# Altium schematic symbol library Relay.SchLib: 198 symbols (part 1 of 2)
Pins are listed as number, name and electrical type; pins without a type are passive.

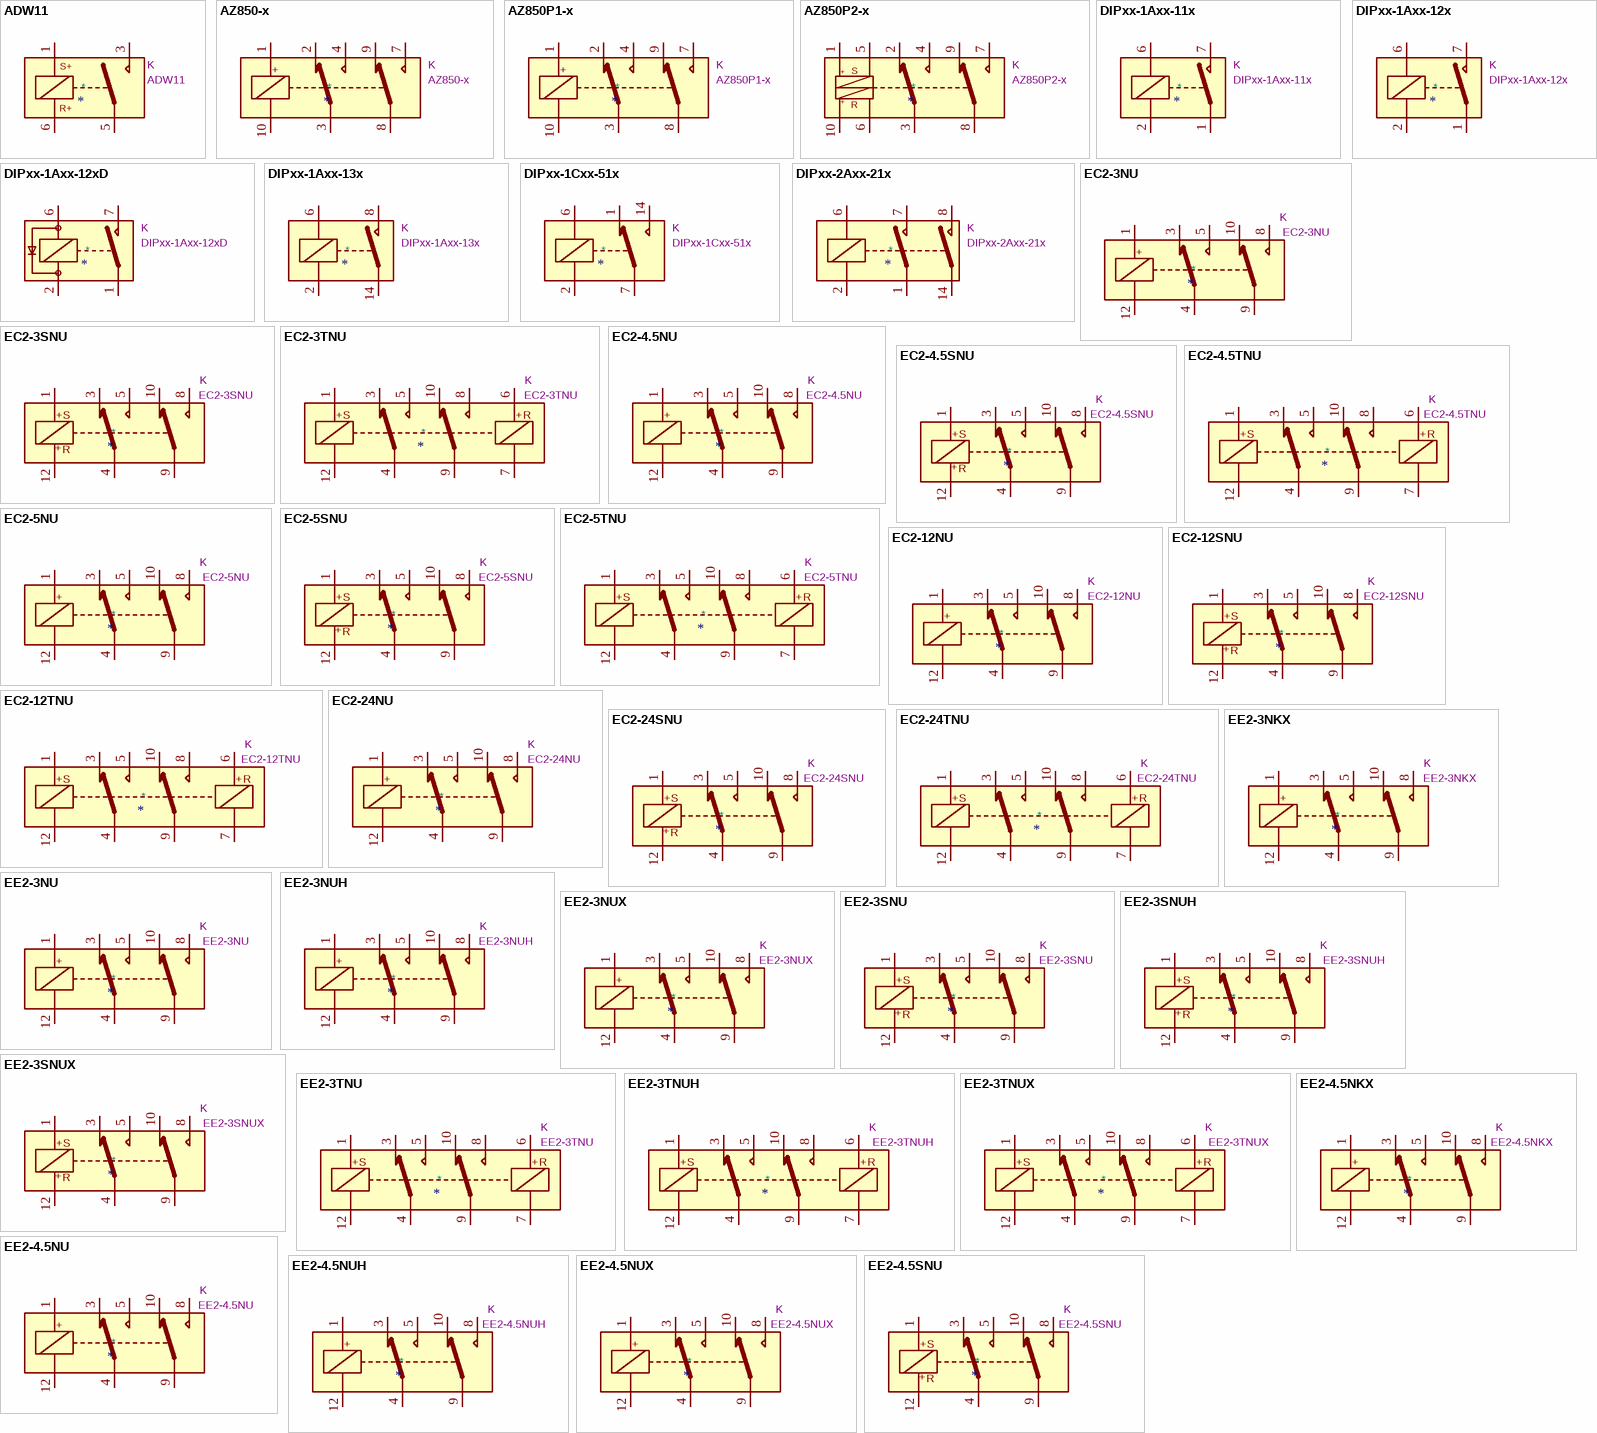
[diagram p0: symbols ADW11 to EE2-4.5SNU]

## ADW11
designator *  value ADW11  Reference: K
ki_keywords: SPST 1P1T; ki_description: Panasonic, 8A/16A, Small Polarized Latching Power Relays, Single coil, 1 Form A; ki_fp_filters: Relay*1P1T*NO*Panasonic*ADW11xxxxW*; Footprint: Relay_THT:Relay_1P1T_NO_10x24x18.8mm_Panasonic_ADW11xxxxW_THT; Datasheet: https://www.panasonic-electric-works.com/pew/es/downloads/ds_dw_hl_en.pdf
pins: 1, 3, 5, 6
text: S+; R+

## AZ850-x
designator *  value AZ850-x  Reference: K
ki_keywords: Miniature Polarised Relay Dual Pole; ki_description: American Zettler, Microminiature Polarised Dual Pole Relay; ki_fp_filters: Relay*DPDT*FRT5*; Footprint: Relay_THT:Relay_DPDT_FRT5; Datasheet: http://www.azettler.com/pdfs/az850.pdf
pins: 1, 2, 3, 4, 7, 8, 9, 10
text: +

## AZ850P1-x
designator *  value AZ850P1-x  Reference: K
ki_keywords: Miniature Polarised Relay Dual Pole Bistable; ki_description: American Zettler, Microminiature Polarised Dual Pole Relay Bistable; ki_fp_filters: Relay*DPDT*FRT5*; Footprint: Relay_THT:Relay_DPDT_FRT5; Datasheet: http://www.azettler.com/pdfs/az850.pdf
pins: 1, 2, 3, 4, 7, 8, 9, 10
text: +

## AZ850P2-x
designator *  value AZ850P2-x  Reference: K
ki_keywords: Miniature Polarised Relay Dual Pole Bistable; ki_description: American Zettler, Microminiature Polarised Dual Pole Relay Bistable; ki_fp_filters: Relay*DPDT*FRT5*; Footprint: Relay_THT:Relay_DPDT_FRT5; Datasheet: http://www.azettler.com/pdfs/az850.pdf
pins: 1, 2, 3, 4, 5, 6, 7, 8, 9, 10
text: +; S; R

## DIPxx-1Axx-11x
designator *  value DIPxx-1Axx-11x  Reference: K
ki_keywords: Single Pole Reed Relay SPST; ki_description: Standex Meder DIP reed relay, SPST, Closing Contact; ki_fp_filters: Relay*StandexMeder*DIP*LowProfile*; Footprint: Relay_THT:Relay_StandexMeder_DIP_LowProfile; Datasheet: https://standexelectronics.com/wp-content/uploads/datasheet_reed_relay_DIP.pdf
pins: 1, 2, 6, 7, 8 hidden, 14 hidden

## DIPxx-1Axx-12x
designator *  value DIPxx-1Axx-12x  Reference: K
ki_keywords: Single Pole Reed Relay SPST; ki_description: Standex Meder DIP reed relay, SPST, Closing Contact; ki_fp_filters: Relay*StandexMeder*DIP*LowProfile*; Footprint: Relay_THT:Relay_StandexMeder_DIP_LowProfile; Datasheet: https://standexelectronics.com/wp-content/uploads/datasheet_reed_relay_DIP.pdf
pins: 1, 2, 6, 7, 8 hidden, 13 hidden, 14 hidden

## DIPxx-1Axx-12xD
designator *  value DIPxx-1Axx-12xD  Reference: K
ki_keywords: Single Pole Reed Relay SPST; ki_description: Standex Meder DIP reed relay, SPST, Closing Contact, including diode; ki_fp_filters: Relay*StandexMeder*DIP*LowProfile*; Footprint: Relay_THT:Relay_StandexMeder_DIP_LowProfile; Datasheet: https://standexelectronics.com/wp-content/uploads/datasheet_reed_relay_DIP.pdf
pins: 1, 2, 6, 7, 8 hidden, 13 hidden, 14 hidden

## DIPxx-1Axx-13x
designator *  value DIPxx-1Axx-13x  Reference: K
ki_keywords: Single Pole Reed Relay SPST; ki_description: Standex Meder DIP reed relay, SPST, Closing Contact; ki_fp_filters: Relay*StandexMeder*DIP*LowProfile*; Footprint: Relay_THT:Relay_StandexMeder_DIP_LowProfile; Datasheet: https://standexelectronics.com/wp-content/uploads/datasheet_reed_relay_DIP.pdf
pins: 2, 6, 8, 14

## DIPxx-1Cxx-51x
designator *  value DIPxx-1Cxx-51x  Reference: K
ki_keywords: Single Pole Reed Relay SPDT; ki_description: Standex Meder DIP reed relay, SPDT; ki_fp_filters: Relay*StandexMeder*DIP*LowProfile*; Footprint: Relay_THT:Relay_StandexMeder_DIP_LowProfile; Datasheet: https://standexelectronics.com/wp-content/uploads/datasheet_reed_relay_DIP.pdf
pins: 1, 2, 6, 7, 8 hidden, 14

## DIPxx-2Axx-21x
designator *  value DIPxx-2Axx-21x  Reference: K
ki_keywords: Single Pole Reed Relay DPST; ki_description: Standex Meder DIP reed relay, DPST, Closing Contacts; ki_fp_filters: Relay*StandexMeder*DIP*LowProfile*; Footprint: Relay_THT:Relay_StandexMeder_DIP_LowProfile; Datasheet: https://standexelectronics.com/wp-content/uploads/datasheet_reed_relay_DIP.pdf
pins: 1, 2, 6, 7, 8, 14

## EC2-3NU
designator *  value EC2-3NU  Reference: K
ki_keywords: signal relay double pole double throw DPDT DC coil non latching; ki_description: General purpose signal relay, Kemet EC2 Series, DPDT (2 Form C), non-latching, through hole, 60W/125VA, 220VDC/250VAC, 2A, 3V DC coil; ki_fp_filters: Relay*THT*Kemet*EC2*; Footprint: Relay_THT:Relay_DPDT_Kemet_EC2; Datasheet: https://content.kemet.com/datasheets/KEM_R7002_EC2_EE2.pdf
pins: 1, 3, 4, 5, 8, 9, 10, 12
text: +

## EC2-3SNU
designator *  value EC2-3SNU  Reference: K
ki_keywords: signal relay double pole double throw DPDT DC coil single coil latching; ki_description: General purpose signal relay, Kemet EC2 Series, DPDT (2 Form C), single coil latching, through hole, 60W/125VA, 220VDC/250VAC, 2A, 3V DC coil; ki_fp_filters: Relay*THT*Kemet*EC2*; Footprint: Relay_THT:Relay_DPDT_Kemet_EC2; Datasheet: https://content.kemet.com/datasheets/KEM_R7002_EC2_EE2.pdf
pins: 1, 3, 4, 5, 8, 9, 10, 12
text: +; S; R

## EC2-3TNU
designator *  value EC2-3TNU  Reference: K
ki_keywords: signal relay double pole double throw DPDT DC coil double dual coil latching; ki_description: General purpose signal relay, Kemet EC2 Series, DPDT (2 Form C), double coil latching, through hole, 60W/125VA, 220VDC/250VAC, 2A, 3V DC coil; ki_fp_filters: Relay*THT*Kemet*EC2*DoubleCoil*; Footprint: Relay_THT:Relay_DPDT_Kemet_EC2_DoubleCoil; Datasheet: https://content.kemet.com/datasheets/KEM_R7002_EC2_EE2.pdf
pins: 1, 3, 4, 5, 6, 7, 8, 9, 10, 12
text: +; S; R

## EC2-4.5NU
designator *  value EC2-4.5NU  Reference: K
ki_keywords: signal relay double pole double throw DPDT DC coil non latching; ki_description: General purpose signal relay, Kemet EC2 Series, DPDT (2 Form C), non-latching, through hole, 60W/125VA, 220VDC/250VAC, 2A, 4.5V DC coil; ki_fp_filters: Relay*THT*Kemet*EC2*; Footprint: Relay_THT:Relay_DPDT_Kemet_EC2; Datasheet: https://content.kemet.com/datasheets/KEM_R7002_EC2_EE2.pdf
pins: 1, 3, 4, 5, 8, 9, 10, 12
text: +

## EC2-4.5SNU
designator *  value EC2-4.5SNU  Reference: K
ki_keywords: signal relay double pole double throw DPDT DC coil single coil latching; ki_description: General purpose signal relay, Kemet EC2 Series, DPDT (2 Form C), single coil latching, through hole, 60W/125VA, 220VDC/250VAC, 2A, 4.5V DC coil; ki_fp_filters: Relay*THT*Kemet*EC2*; Footprint: Relay_THT:Relay_DPDT_Kemet_EC2; Datasheet: https://content.kemet.com/datasheets/KEM_R7002_EC2_EE2.pdf
pins: 1, 3, 4, 5, 8, 9, 10, 12
text: +; S; R

## EC2-4.5TNU
designator *  value EC2-4.5TNU  Reference: K
ki_keywords: signal relay double pole double throw DPDT DC coil double dual coil latching; ki_description: General purpose signal relay, Kemet EC2 Series, DPDT (2 Form C), double coil latching, through hole, 60W/125VA, 220VDC/250VAC, 2A, 4.5V DC coil; ki_fp_filters: Relay*THT*Kemet*EC2*DoubleCoil*; Footprint: Relay_THT:Relay_DPDT_Kemet_EC2_DoubleCoil; Datasheet: https://content.kemet.com/datasheets/KEM_R7002_EC2_EE2.pdf
pins: 1, 3, 4, 5, 6, 7, 8, 9, 10, 12
text: +; S; R

## EC2-5NU
designator *  value EC2-5NU  Reference: K
ki_keywords: signal relay double pole double throw DPDT DC coil non latching; ki_description: General purpose signal relay, Kemet EC2 Series, DPDT (2 Form C), non-latching, through hole, 60W/125VA, 220VDC/250VAC, 2A, 5V DC coil; ki_fp_filters: Relay*THT*Kemet*EC2*; Footprint: Relay_THT:Relay_DPDT_Kemet_EC2; Datasheet: https://content.kemet.com/datasheets/KEM_R7002_EC2_EE2.pdf
pins: 1, 3, 4, 5, 8, 9, 10, 12
text: +

## EC2-5SNU
designator *  value EC2-5SNU  Reference: K
ki_keywords: signal relay double pole double throw DPDT DC coil single coil latching; ki_description: General purpose signal relay, Kemet EC2 Series, DPDT (2 Form C), single coil latching, through hole, 60W/125VA, 220VDC/250VAC, 2A, 5V DC coil; ki_fp_filters: Relay*THT*Kemet*EC2*; Footprint: Relay_THT:Relay_DPDT_Kemet_EC2; Datasheet: https://content.kemet.com/datasheets/KEM_R7002_EC2_EE2.pdf
pins: 1, 3, 4, 5, 8, 9, 10, 12
text: +; S; R

## EC2-5TNU
designator *  value EC2-5TNU  Reference: K
ki_keywords: signal relay double pole double throw DPDT DC coil double dual coil latching; ki_description: General purpose signal relay, Kemet EC2 Series, DPDT (2 Form C), double coil latching, through hole, 60W/125VA, 220VDC/250VAC, 2A, 5V DC coil; ki_fp_filters: Relay*THT*Kemet*EC2*DoubleCoil*; Footprint: Relay_THT:Relay_DPDT_Kemet_EC2_DoubleCoil; Datasheet: https://content.kemet.com/datasheets/KEM_R7002_EC2_EE2.pdf
pins: 1, 3, 4, 5, 6, 7, 8, 9, 10, 12
text: +; S; R

## EC2-12NU
designator *  value EC2-12NU  Reference: K
ki_keywords: signal relay double pole double throw DPDT DC coil non latching; ki_description: General purpose signal relay, Kemet EC2 Series, DPDT (2 Form C), non-latching, through hole, 60W/125VA, 220VDC/250VAC, 2A, 12V DC coil; ki_fp_filters: Relay*THT*Kemet*EC2*; Footprint: Relay_THT:Relay_DPDT_Kemet_EC2; Datasheet: https://content.kemet.com/datasheets/KEM_R7002_EC2_EE2.pdf
pins: 1, 3, 4, 5, 8, 9, 10, 12
text: +

## EC2-12SNU
designator *  value EC2-12SNU  Reference: K
ki_keywords: signal relay double pole double throw DPDT DC coil single coil latching; ki_description: General purpose signal relay, Kemet EC2 Series, DPDT (2 Form C), single coil latching, through hole, 60W/125VA, 220VDC/250VAC, 2A, 12V DC coil; ki_fp_filters: Relay*THT*Kemet*EC2*; Footprint: Relay_THT:Relay_DPDT_Kemet_EC2; Datasheet: https://content.kemet.com/datasheets/KEM_R7002_EC2_EE2.pdf
pins: 1, 3, 4, 5, 8, 9, 10, 12
text: +; S; R

## EC2-12TNU
designator *  value EC2-12TNU  Reference: K
ki_keywords: signal relay double pole double throw DPDT DC coil double dual coil latching; ki_description: General purpose signal relay, Kemet EC2 Series, DPDT (2 Form C), double coil latching, through hole, 60W/125VA, 220VDC/250VAC, 2A, 12V DC coil; ki_fp_filters: Relay*THT*Kemet*EC2*DoubleCoil*; Footprint: Relay_THT:Relay_DPDT_Kemet_EC2_DoubleCoil; Datasheet: https://content.kemet.com/datasheets/KEM_R7002_EC2_EE2.pdf
pins: 1, 3, 4, 5, 6, 7, 8, 9, 10, 12
text: +; S; R

## EC2-24NU
designator *  value EC2-24NU  Reference: K
ki_keywords: signal relay double pole double throw DPDT DC coil non latching; ki_description: General purpose signal relay, Kemet EC2 Series, DPDT (2 Form C), non-latching, through hole, 60W/125VA, 220VDC/250VAC, 2A, 24V DC coil; ki_fp_filters: Relay*THT*Kemet*EC2*; Footprint: Relay_THT:Relay_DPDT_Kemet_EC2; Datasheet: https://content.kemet.com/datasheets/KEM_R7002_EC2_EE2.pdf
pins: 1, 3, 4, 5, 8, 9, 10, 12
text: +

## EC2-24SNU
designator *  value EC2-24SNU  Reference: K
ki_keywords: signal relay double pole double throw DPDT DC coil single coil latching; ki_description: General purpose signal relay, Kemet EC2 Series, DPDT (2 Form C), single coil latching, through hole, 60W/125VA, 220VDC/250VAC, 2A, 24V DC coil; ki_fp_filters: Relay*THT*Kemet*EC2*; Footprint: Relay_THT:Relay_DPDT_Kemet_EC2; Datasheet: https://content.kemet.com/datasheets/KEM_R7002_EC2_EE2.pdf
pins: 1, 3, 4, 5, 8, 9, 10, 12
text: +; S; R

## EC2-24TNU
designator *  value EC2-24TNU  Reference: K
ki_keywords: signal relay double pole double throw DPDT DC coil double dual coil latching; ki_description: General purpose signal relay, Kemet EC2 Series, DPDT (2 Form C), double coil latching, through hole, 60W/125VA, 220VDC/250VAC, 2A, 24V DC coil; ki_fp_filters: Relay*THT*Kemet*EC2*DoubleCoil*; Footprint: Relay_THT:Relay_DPDT_Kemet_EC2_DoubleCoil; Datasheet: https://content.kemet.com/datasheets/KEM_R7002_EC2_EE2.pdf
pins: 1, 3, 4, 5, 6, 7, 8, 9, 10, 12
text: +; S; R

## EE2-3NKX
designator *  value EE2-3NKX  Reference: K
ki_keywords: signal relay double pole double throw DPDT DC coil non latching; ki_description: General purpose signal relay, Kemet EE2 Series, DPDT (2 Form C), non-latching, high breakdown voltage, high solder joint reliability SMD, 60W/125VA, 220VDC/250VAC, 2A, 3V DC coil; ki_fp_filters: Relay*DPDT*Kemet*EE2*NKX*; Footprint: Relay_SMD:Relay_DPDT_Kemet_EE2_NUX_NKX; Datasheet: https://content.kemet.com/datasheets/KEM_R7002_EC2_EE2.pdf
pins: 1, 3, 4, 5, 8, 9, 10, 12
text: +

## EE2-3NU
designator *  value EE2-3NU  Reference: K
ki_keywords: signal relay double pole double throw DPDT DC coil non latching; ki_description: General purpose signal relay, Kemet EE2 Series, DPDT (2 Form C), non-latching, SMD, 60W/125VA, 220VDC/250VAC, 2A, 3V DC coil; ki_fp_filters: Relay*DPDT*Kemet*EE2*NU*; Footprint: Relay_SMD:Relay_DPDT_Kemet_EE2_NU; Datasheet: https://content.kemet.com/datasheets/KEM_R7002_EC2_EE2.pdf
pins: 1, 3, 4, 5, 8, 9, 10, 12
text: +

## EE2-3NUH
designator *  value EE2-3NUH  Reference: K
ki_keywords: signal relay double pole double throw DPDT DC coil non latching; ki_description: General purpose signal relay, Kemet EE2 Series, DPDT (2 Form C), non-latching, small footprint SMD, 60W/125VA, 220VDC/250VAC, 2A, 3V DC coil; ki_fp_filters: Relay*DPDT*Kemet*EE2*NUH*; Footprint: Relay_SMD:Relay_DPDT_Kemet_EE2_NUH; Datasheet: https://content.kemet.com/datasheets/KEM_R7002_EC2_EE2.pdf
pins: 1, 3, 4, 5, 8, 9, 10, 12
text: +

## EE2-3NUX
designator *  value EE2-3NUX  Reference: K
ki_keywords: signal relay double pole double throw DPDT DC coil non latching; ki_description: General purpose signal relay, Kemet EE2 Series, DPDT (2 Form C), non-latching, high solder joint reliability SMD, 60W/125VA, 220VDC/250VAC, 2A, 3V DC coil; ki_fp_filters: Relay*DPDT*Kemet*EE2*NUX*; Footprint: Relay_SMD:Relay_DPDT_Kemet_EE2_NUX_NKX; Datasheet: https://content.kemet.com/datasheets/KEM_R7002_EC2_EE2.pdf
pins: 1, 3, 4, 5, 8, 9, 10, 12
text: +

## EE2-3SNU
designator *  value EE2-3SNU  Reference: K
ki_keywords: signal relay double pole double throw DPDT DC coil single coil latching; ki_description: General purpose signal relay, Kemet EE2 Series, DPDT (2 Form C), single coil latching, SMD, 60W/125VA, 220VDC/250VAC, 2A, 3V DC coil; ki_fp_filters: Relay*DPDT*Kemet*EE2*NU*; Footprint: Relay_SMD:Relay_DPDT_Kemet_EE2_NU; Datasheet: https://content.kemet.com/datasheets/KEM_R7002_EC2_EE2.pdf
pins: 1, 3, 4, 5, 8, 9, 10, 12
text: +; S; R

## EE2-3SNUH
designator *  value EE2-3SNUH  Reference: K
ki_keywords: signal relay double pole double throw DPDT DC coil single coil latching; ki_description: General purpose signal relay, Kemet EE2 Series, DPDT (2 Form C), single coil latching, small footprint SMD, 60W/125VA, 220VDC/250VAC, 2A, 3V DC coil; ki_fp_filters: Relay*DPDT*Kemet*EE2*NUH*; Footprint: Relay_SMD:Relay_DPDT_Kemet_EE2_NUH; Datasheet: https://content.kemet.com/datasheets/KEM_R7002_EC2_EE2.pdf
pins: 1, 3, 4, 5, 8, 9, 10, 12
text: +; S; R

## EE2-3SNUX
designator *  value EE2-3SNUX  Reference: K
ki_keywords: signal relay double pole double throw DPDT DC coil single coil latching; ki_description: General purpose signal relay, Kemet EE2 Series, DPDT (2 Form C), single coil latching, high solder joint reliability SMD, 60W/125VA, 220VDC/250VAC, 2A, 3V DC coil; ki_fp_filters: Relay*DPDT*Kemet*EE2*NUX*; Footprint: Relay_SMD:Relay_DPDT_Kemet_EE2_NUX_NKX; Datasheet: https://content.kemet.com/datasheets/KEM_R7002_EC2_EE2.pdf
pins: 1, 3, 4, 5, 8, 9, 10, 12
text: +; S; R

## EE2-3TNU
designator *  value EE2-3TNU  Reference: K
ki_keywords: signal relay double pole double throw DPDT DC coil double dual coil latching; ki_description: General purpose signal relay, Kemet EE2 Series, DPDT (2 Form C), double coil latching, SMD, 60W/125VA, 220VDC/250VAC, 2A, 3V DC coil; ki_fp_filters: Relay*DPDT*Kemet*EE2*NU*DoubleCoil*; Footprint: Relay_SMD:Relay_DPDT_Kemet_EE2_NU_DoubleCoil; Datasheet: https://content.kemet.com/datasheets/KEM_R7002_EC2_EE2.pdf
pins: 1, 3, 4, 5, 6, 7, 8, 9, 10, 12
text: +; S; R

## EE2-3TNUH
designator *  value EE2-3TNUH  Reference: K
ki_keywords: signal relay double pole double throw DPDT DC coil double dual coil latching; ki_description: General purpose signal relay, Kemet EE2 Series, DPDT (2 Form C), double coil latching, small footprint SMD, 60W/125VA, 220VDC/250VAC, 2A, 3V DC coil; ki_fp_filters: Relay*DPDT*Kemet*EE2*NUH*DoubleCoil*; Footprint: Relay_SMD:Relay_DPDT_Kemet_EE2_NUH_DoubleCoil; Datasheet: https://content.kemet.com/datasheets/KEM_R7002_EC2_EE2.pdf
pins: 1, 3, 4, 5, 6, 7, 8, 9, 10, 12
text: +; S; R

## EE2-3TNUX
designator *  value EE2-3TNUX  Reference: K
ki_keywords: signal relay double pole double throw DPDT DC coil double dual coil latching; ki_description: General purpose signal relay, Kemet EE2 Series, DPDT (2 Form C), double coil latching, high solder joint reliability SMD, 60W/125VA, 220VDC/250VAC, 2A, 3V DC coil; ki_fp_filters: Relay*DPDT*Kemet*EE2*NUX*DoubleCoil*; Footprint: Relay_SMD:Relay_DPDT_Kemet_EE2_NUX_DoubleCoil; Datasheet: https://content.kemet.com/datasheets/KEM_R7002_EC2_EE2.pdf
pins: 1, 3, 4, 5, 6, 7, 8, 9, 10, 12
text: +; S; R

## EE2-4.5NKX
designator *  value EE2-4.5NKX  Reference: K
ki_keywords: signal relay double pole double throw DPDT DC coil non latching; ki_description: General purpose signal relay, Kemet EE2 Series, DPDT (2 Form C), non-latching, high breakdown voltage, high solder joint reliability SMD, 60W/125VA, 220VDC/250VAC, 2A, 4.5V DC coil; ki_fp_filters: Relay*DPDT*Kemet*EE2*NKX*; Footprint: Relay_SMD:Relay_DPDT_Kemet_EE2_NUX_NKX; Datasheet: https://content.kemet.com/datasheets/KEM_R7002_EC2_EE2.pdf
pins: 1, 3, 4, 5, 8, 9, 10, 12
text: +

## EE2-4.5NU
designator *  value EE2-4.5NU  Reference: K
ki_keywords: signal relay double pole double throw DPDT DC coil non latching; ki_description: General purpose signal relay, Kemet EE2 Series, DPDT (2 Form C), non-latching, SMD, 60W/125VA, 220VDC/250VAC, 2A, 4.5V DC coil; ki_fp_filters: Relay*DPDT*Kemet*EE2*NU*; Footprint: Relay_SMD:Relay_DPDT_Kemet_EE2_NU; Datasheet: https://content.kemet.com/datasheets/KEM_R7002_EC2_EE2.pdf
pins: 1, 3, 4, 5, 8, 9, 10, 12
text: +

## EE2-4.5NUH
designator *  value EE2-4.5NUH  Reference: K
ki_keywords: signal relay double pole double throw DPDT DC coil non latching; ki_description: General purpose signal relay, Kemet EE2 Series, DPDT (2 Form C), non-latching, small footprint SMD, 60W/125VA, 220VDC/250VAC, 2A, 4.5V DC coil; ki_fp_filters: Relay*DPDT*Kemet*EE2*NUH*; Footprint: Relay_SMD:Relay_DPDT_Kemet_EE2_NUH; Datasheet: https://content.kemet.com/datasheets/KEM_R7002_EC2_EE2.pdf
pins: 1, 3, 4, 5, 8, 9, 10, 12
text: +

## EE2-4.5NUX
designator *  value EE2-4.5NUX  Reference: K
ki_keywords: signal relay double pole double throw DPDT DC coil non latching; ki_description: General purpose signal relay, Kemet EE2 Series, DPDT (2 Form C), non-latching, high solder joint reliability SMD, 60W/125VA, 220VDC/250VAC, 2A, 4.5V DC coil; ki_fp_filters: Relay*DPDT*Kemet*EE2*NUX*; Footprint: Relay_SMD:Relay_DPDT_Kemet_EE2_NUX_NKX; Datasheet: https://content.kemet.com/datasheets/KEM_R7002_EC2_EE2.pdf
pins: 1, 3, 4, 5, 8, 9, 10, 12
text: +

## EE2-4.5SNU
designator *  value EE2-4.5SNU  Reference: K
ki_keywords: signal relay double pole double throw DPDT DC coil single coil latching; ki_description: General purpose signal relay, Kemet EE2 Series, DPDT (2 Form C), single coil latching, SMD, 60W/125VA, 220VDC/250VAC, 2A, 4.5V DC coil; ki_fp_filters: Relay*DPDT*Kemet*EE2*NU*; Footprint: Relay_SMD:Relay_DPDT_Kemet_EE2_NU; Datasheet: https://content.kemet.com/datasheets/KEM_R7002_EC2_EE2.pdf
pins: 1, 3, 4, 5, 8, 9, 10, 12
text: +; S; R

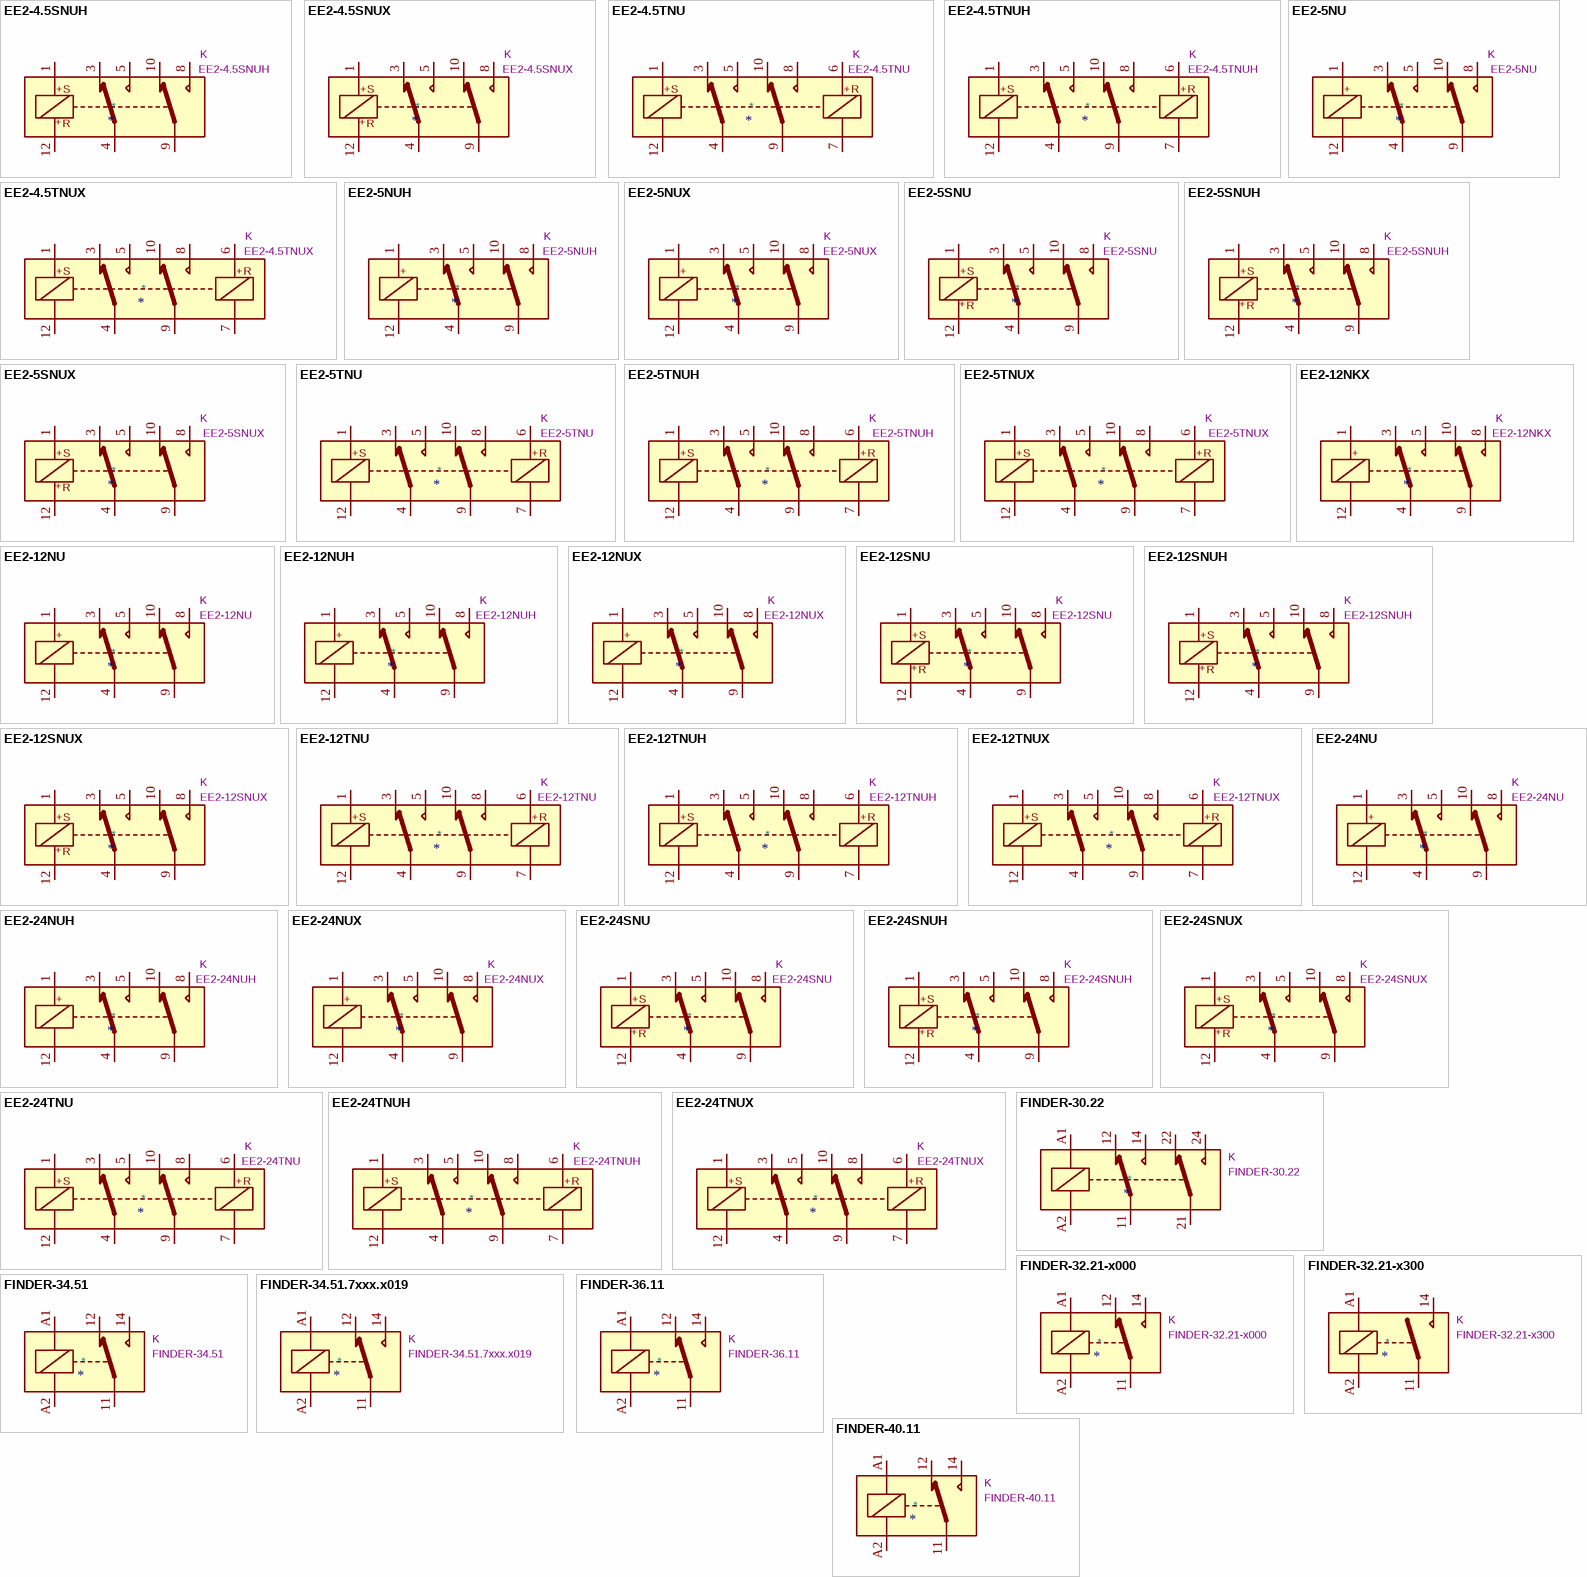
[diagram p1: symbols EE2-4.5SNUH to FINDER-40.11]

## EE2-4.5SNUH
designator *  value EE2-4.5SNUH  Reference: K
ki_keywords: signal relay double pole double throw DPDT DC coil single coil latching; ki_description: General purpose signal relay, Kemet EE2 Series, DPDT (2 Form C), single coil latching, small footprint SMD, 60W/125VA, 220VDC/250VAC, 2A, 4.5V DC coil; ki_fp_filters: Relay*DPDT*Kemet*EE2*NUH*; Footprint: Relay_SMD:Relay_DPDT_Kemet_EE2_NUH; Datasheet: https://content.kemet.com/datasheets/KEM_R7002_EC2_EE2.pdf
pins: 1, 3, 4, 5, 8, 9, 10, 12
text: +; S; R

## EE2-4.5SNUX
designator *  value EE2-4.5SNUX  Reference: K
ki_keywords: signal relay double pole double throw DPDT DC coil single coil latching; ki_description: General purpose signal relay, Kemet EE2 Series, DPDT (2 Form C), single coil latching, high solder joint reliability SMD, 60W/125VA, 220VDC/250VAC, 2A, 4.5V DC coil; ki_fp_filters: Relay*DPDT*Kemet*EE2*NUX*; Footprint: Relay_SMD:Relay_DPDT_Kemet_EE2_NUX_NKX; Datasheet: https://content.kemet.com/datasheets/KEM_R7002_EC2_EE2.pdf
pins: 1, 3, 4, 5, 8, 9, 10, 12
text: +; S; R

## EE2-4.5TNU
designator *  value EE2-4.5TNU  Reference: K
ki_keywords: signal relay double pole double throw DPDT DC coil double dual coil latching; ki_description: General purpose signal relay, Kemet EE2 Series, DPDT (2 Form C), double coil latching, SMD, 60W/125VA, 220VDC/250VAC, 2A, 4.5V DC coil; ki_fp_filters: Relay*DPDT*Kemet*EE2*NU*DoubleCoil*; Footprint: Relay_SMD:Relay_DPDT_Kemet_EE2_NU_DoubleCoil; Datasheet: https://content.kemet.com/datasheets/KEM_R7002_EC2_EE2.pdf
pins: 1, 3, 4, 5, 6, 7, 8, 9, 10, 12
text: +; S; R

## EE2-4.5TNUH
designator *  value EE2-4.5TNUH  Reference: K
ki_keywords: signal relay double pole double throw DPDT DC coil double dual coil latching; ki_description: General purpose signal relay, Kemet EE2 Series, DPDT (2 Form C), double coil latching, small footprint SMD, 60W/125VA, 220VDC/250VAC, 2A, 4.5V DC coil; ki_fp_filters: Relay*DPDT*Kemet*EE2*NUH*DoubleCoil*; Footprint: Relay_SMD:Relay_DPDT_Kemet_EE2_NUH_DoubleCoil; Datasheet: https://content.kemet.com/datasheets/KEM_R7002_EC2_EE2.pdf
pins: 1, 3, 4, 5, 6, 7, 8, 9, 10, 12
text: +; S; R

## EE2-4.5TNUX
designator *  value EE2-4.5TNUX  Reference: K
ki_keywords: signal relay double pole double throw DPDT DC coil double dual coil latching; ki_description: General purpose signal relay, Kemet EE2 Series, DPDT (2 Form C), double coil latching, high solder joint reliability SMD, 60W/125VA, 220VDC/250VAC, 2A, 4.5V DC coil; ki_fp_filters: Relay*DPDT*Kemet*EE2*NUX*DoubleCoil*; Footprint: Relay_SMD:Relay_DPDT_Kemet_EE2_NUX_DoubleCoil; Datasheet: https://content.kemet.com/datasheets/KEM_R7002_EC2_EE2.pdf
pins: 1, 3, 4, 5, 6, 7, 8, 9, 10, 12
text: +; S; R

## EE2-5NU
designator *  value EE2-5NU  Reference: K
ki_keywords: signal relay double pole double throw DPDT DC coil non latching; ki_description: General purpose signal relay, Kemet EE2 Series, DPDT (2 Form C), non-latching, SMD, 60W/125VA, 220VDC/250VAC, 2A, 5V DC coil; ki_fp_filters: Relay*DPDT*Kemet*EE2*NU*; Footprint: Relay_SMD:Relay_DPDT_Kemet_EE2_NU; Datasheet: https://content.kemet.com/datasheets/KEM_R7002_EC2_EE2.pdf
pins: 1, 3, 4, 5, 8, 9, 10, 12
text: +

## EE2-5NUH
designator *  value EE2-5NUH  Reference: K
ki_keywords: signal relay double pole double throw DPDT DC coil non latching; ki_description: General purpose signal relay, Kemet EE2 Series, DPDT (2 Form C), non-latching, small footprint SMD, 60W/125VA, 220VDC/250VAC, 2A, 5V DC coil; ki_fp_filters: Relay*DPDT*Kemet*EE2*NUH*; Footprint: Relay_SMD:Relay_DPDT_Kemet_EE2_NUH; Datasheet: https://content.kemet.com/datasheets/KEM_R7002_EC2_EE2.pdf
pins: 1, 3, 4, 5, 8, 9, 10, 12
text: +

## EE2-5NUX
designator *  value EE2-5NUX  Reference: K
ki_keywords: signal relay double pole double throw DPDT DC coil non latching; ki_description: General purpose signal relay, Kemet EE2 Series, DPDT (2 Form C), non-latching, high solder joint reliability SMD, 60W/125VA, 220VDC/250VAC, 2A, 5V DC coil; ki_fp_filters: Relay*DPDT*Kemet*EE2*NUX*; Footprint: Relay_SMD:Relay_DPDT_Kemet_EE2_NUX_NKX; Datasheet: https://content.kemet.com/datasheets/KEM_R7002_EC2_EE2.pdf
pins: 1, 3, 4, 5, 8, 9, 10, 12
text: +

## EE2-5SNU
designator *  value EE2-5SNU  Reference: K
ki_keywords: signal relay double pole double throw DPDT DC coil single coil latching; ki_description: General purpose signal relay, Kemet EE2 Series, DPDT (2 Form C), single coil latching, SMD, 60W/125VA, 220VDC/250VAC, 2A, 5V DC coil; ki_fp_filters: Relay*DPDT*Kemet*EE2*NU*; Footprint: Relay_SMD:Relay_DPDT_Kemet_EE2_NU; Datasheet: https://content.kemet.com/datasheets/KEM_R7002_EC2_EE2.pdf
pins: 1, 3, 4, 5, 8, 9, 10, 12
text: +; S; R

## EE2-5SNUH
designator *  value EE2-5SNUH  Reference: K
ki_keywords: signal relay double pole double throw DPDT DC coil single coil latching; ki_description: General purpose signal relay, Kemet EE2 Series, DPDT (2 Form C), single coil latching, small footprint SMD, 60W/125VA, 220VDC/250VAC, 2A, 5V DC coil; ki_fp_filters: Relay*DPDT*Kemet*EE2*NUH*; Footprint: Relay_SMD:Relay_DPDT_Kemet_EE2_NUH; Datasheet: https://content.kemet.com/datasheets/KEM_R7002_EC2_EE2.pdf
pins: 1, 3, 4, 5, 8, 9, 10, 12
text: +; S; R

## EE2-5SNUX
designator *  value EE2-5SNUX  Reference: K
ki_keywords: signal relay double pole double throw DPDT DC coil single coil latching; ki_description: General purpose signal relay, Kemet EE2 Series, DPDT (2 Form C), single coil latching, high solder joint reliability SMD, 60W/125VA, 220VDC/250VAC, 2A, 5V DC coil; ki_fp_filters: Relay*DPDT*Kemet*EE2*NUX*; Footprint: Relay_SMD:Relay_DPDT_Kemet_EE2_NUX_NKX; Datasheet: https://content.kemet.com/datasheets/KEM_R7002_EC2_EE2.pdf
pins: 1, 3, 4, 5, 8, 9, 10, 12
text: +; S; R

## EE2-5TNU
designator *  value EE2-5TNU  Reference: K
ki_keywords: signal relay double pole double throw DPDT DC coil double dual coil latching; ki_description: General purpose signal relay, Kemet EE2 Series, DPDT (2 Form C), double coil latching, SMD, 60W/125VA, 220VDC/250VAC, 2A, 5V DC coil; ki_fp_filters: Relay*DPDT*Kemet*EE2*NU*DoubleCoil*; Footprint: Relay_SMD:Relay_DPDT_Kemet_EE2_NU_DoubleCoil; Datasheet: https://content.kemet.com/datasheets/KEM_R7002_EC2_EE2.pdf
pins: 1, 3, 4, 5, 6, 7, 8, 9, 10, 12
text: +; S; R

## EE2-5TNUH
designator *  value EE2-5TNUH  Reference: K
ki_keywords: signal relay double pole double throw DPDT DC coil double dual coil latching; ki_description: General purpose signal relay, Kemet EE2 Series, DPDT (2 Form C), double coil latching, small footprint SMD, 60W/125VA, 220VDC/250VAC, 2A, 5V DC coil; ki_fp_filters: Relay*DPDT*Kemet*EE2*NUH*DoubleCoil*; Footprint: Relay_SMD:Relay_DPDT_Kemet_EE2_NUH_DoubleCoil; Datasheet: https://content.kemet.com/datasheets/KEM_R7002_EC2_EE2.pdf
pins: 1, 3, 4, 5, 6, 7, 8, 9, 10, 12
text: +; S; R

## EE2-5TNUX
designator *  value EE2-5TNUX  Reference: K
ki_keywords: signal relay double pole double throw DPDT DC coil double dual coil latching; ki_description: General purpose signal relay, Kemet EE2 Series, DPDT (2 Form C), double coil latching, high solder joint reliability SMD, 60W/125VA, 220VDC/250VAC, 2A, 5V DC coil; ki_fp_filters: Relay*DPDT*Kemet*EE2*NUX*DoubleCoil*; Footprint: Relay_SMD:Relay_DPDT_Kemet_EE2_NUX_DoubleCoil; Datasheet: https://content.kemet.com/datasheets/KEM_R7002_EC2_EE2.pdf
pins: 1, 3, 4, 5, 6, 7, 8, 9, 10, 12
text: +; S; R

## EE2-12NKX
designator *  value EE2-12NKX  Reference: K
ki_keywords: signal relay double pole double throw DPDT DC coil non latching; ki_description: General purpose signal relay, Kemet EE2 Series, DPDT (2 Form C), non-latching, high breakdown voltage, high solder joint reliability SMD, 60W/125VA, 220VDC/250VAC, 2A, 12V DC coil; ki_fp_filters: Relay*DPDT*Kemet*EE2*NKX*; Footprint: Relay_SMD:Relay_DPDT_Kemet_EE2_NUX_NKX; Datasheet: https://content.kemet.com/datasheets/KEM_R7002_EC2_EE2.pdf
pins: 1, 3, 4, 5, 8, 9, 10, 12
text: +

## EE2-12NU
designator *  value EE2-12NU  Reference: K
ki_keywords: signal relay double pole double throw DPDT DC coil non latching; ki_description: General purpose signal relay, Kemet EE2 Series, DPDT (2 Form C), non-latching, SMD, 60W/125VA, 220VDC/250VAC, 2A, 12V DC coil; ki_fp_filters: Relay*DPDT*Kemet*EE2*NU*; Footprint: Relay_SMD:Relay_DPDT_Kemet_EE2_NU; Datasheet: https://content.kemet.com/datasheets/KEM_R7002_EC2_EE2.pdf
pins: 1, 3, 4, 5, 8, 9, 10, 12
text: +

## EE2-12NUH
designator *  value EE2-12NUH  Reference: K
ki_keywords: signal relay double pole double throw DPDT DC coil non latching; ki_description: General purpose signal relay, Kemet EE2 Series, DPDT (2 Form C), non-latching, small footprint SMD, 60W/125VA, 220VDC/250VAC, 2A, 12V DC coil; ki_fp_filters: Relay*DPDT*Kemet*EE2*NUH*; Footprint: Relay_SMD:Relay_DPDT_Kemet_EE2_NUH; Datasheet: https://content.kemet.com/datasheets/KEM_R7002_EC2_EE2.pdf
pins: 1, 3, 4, 5, 8, 9, 10, 12
text: +

## EE2-12NUX
designator *  value EE2-12NUX  Reference: K
ki_keywords: signal relay double pole double throw DPDT DC coil non latching; ki_description: General purpose signal relay, Kemet EE2 Series, DPDT (2 Form C), non-latching, high solder joint reliability SMD, 60W/125VA, 220VDC/250VAC, 2A, 12V DC coil; ki_fp_filters: Relay*DPDT*Kemet*EE2*NUX*; Footprint: Relay_SMD:Relay_DPDT_Kemet_EE2_NUX_NKX; Datasheet: https://content.kemet.com/datasheets/KEM_R7002_EC2_EE2.pdf
pins: 1, 3, 4, 5, 8, 9, 10, 12
text: +

## EE2-12SNU
designator *  value EE2-12SNU  Reference: K
ki_keywords: signal relay double pole double throw DPDT DC coil single coil latching; ki_description: General purpose signal relay, Kemet EE2 Series, DPDT (2 Form C), single coil latching, SMD, 60W/125VA, 220VDC/250VAC, 2A, 12V DC coil; ki_fp_filters: Relay*DPDT*Kemet*EE2*NU*; Footprint: Relay_SMD:Relay_DPDT_Kemet_EE2_NU; Datasheet: https://content.kemet.com/datasheets/KEM_R7002_EC2_EE2.pdf
pins: 1, 3, 4, 5, 8, 9, 10, 12
text: +; S; R

## EE2-12SNUH
designator *  value EE2-12SNUH  Reference: K
ki_keywords: signal relay double pole double throw DPDT DC coil single coil latching; ki_description: General purpose signal relay, Kemet EE2 Series, DPDT (2 Form C), single coil latching, small footprint SMD, 60W/125VA, 220VDC/250VAC, 2A, 12V DC coil; ki_fp_filters: Relay*DPDT*Kemet*EE2*NUH*; Footprint: Relay_SMD:Relay_DPDT_Kemet_EE2_NUH; Datasheet: https://content.kemet.com/datasheets/KEM_R7002_EC2_EE2.pdf
pins: 1, 3, 4, 5, 8, 9, 10, 12
text: +; S; R

## EE2-12SNUX
designator *  value EE2-12SNUX  Reference: K
ki_keywords: signal relay double pole double throw DPDT DC coil single coil latching; ki_description: General purpose signal relay, Kemet EE2 Series, DPDT (2 Form C), single coil latching, high solder joint reliability SMD, 60W/125VA, 220VDC/250VAC, 2A, 12V DC coil; ki_fp_filters: Relay*DPDT*Kemet*EE2*NUX*; Footprint: Relay_SMD:Relay_DPDT_Kemet_EE2_NUX_NKX; Datasheet: https://content.kemet.com/datasheets/KEM_R7002_EC2_EE2.pdf
pins: 1, 3, 4, 5, 8, 9, 10, 12
text: +; S; R

## EE2-12TNU
designator *  value EE2-12TNU  Reference: K
ki_keywords: signal relay double pole double throw DPDT DC coil double dual coil latching; ki_description: General purpose signal relay, Kemet EE2 Series, DPDT (2 Form C), double coil latching, SMD, 60W/125VA, 220VDC/250VAC, 2A, 12V DC coil; ki_fp_filters: Relay*DPDT*Kemet*EE2*NU*DoubleCoil*; Footprint: Relay_SMD:Relay_DPDT_Kemet_EE2_NU_DoubleCoil; Datasheet: https://content.kemet.com/datasheets/KEM_R7002_EC2_EE2.pdf
pins: 1, 3, 4, 5, 6, 7, 8, 9, 10, 12
text: +; S; R

## EE2-12TNUH
designator *  value EE2-12TNUH  Reference: K
ki_keywords: signal relay double pole double throw DPDT DC coil double dual coil latching; ki_description: General purpose signal relay, Kemet EE2 Series, DPDT (2 Form C), double coil latching, small footprint SMD, 60W/125VA, 220VDC/250VAC, 2A, 12V DC coil; ki_fp_filters: Relay*DPDT*Kemet*EE2*NUH*DoubleCoil*; Footprint: Relay_SMD:Relay_DPDT_Kemet_EE2_NUH_DoubleCoil; Datasheet: https://content.kemet.com/datasheets/KEM_R7002_EC2_EE2.pdf
pins: 1, 3, 4, 5, 6, 7, 8, 9, 10, 12
text: +; S; R

## EE2-12TNUX
designator *  value EE2-12TNUX  Reference: K
ki_keywords: signal relay double pole double throw DPDT DC coil double dual coil latching; ki_description: General purpose signal relay, Kemet EE2 Series, DPDT (2 Form C), double coil latching, high solder joint reliability SMD, 60W/125VA, 220VDC/250VAC, 2A, 12V DC coil; ki_fp_filters: Relay*DPDT*Kemet*EE2*NUX*DoubleCoil*; Footprint: Relay_SMD:Relay_DPDT_Kemet_EE2_NUX_DoubleCoil; Datasheet: https://content.kemet.com/datasheets/KEM_R7002_EC2_EE2.pdf
pins: 1, 3, 4, 5, 6, 7, 8, 9, 10, 12
text: +; S; R

## EE2-24NU
designator *  value EE2-24NU  Reference: K
ki_keywords: signal relay double pole double throw DPDT DC coil non latching; ki_description: General purpose signal relay, Kemet EE2 Series, DPDT (2 Form C), non-latching, SMD, 60W/125VA, 220VDC/250VAC, 2A, 24V DC coil; ki_fp_filters: Relay*DPDT*Kemet*EE2*NU*; Footprint: Relay_SMD:Relay_DPDT_Kemet_EE2_NU; Datasheet: https://content.kemet.com/datasheets/KEM_R7002_EC2_EE2.pdf
pins: 1, 3, 4, 5, 8, 9, 10, 12
text: +

## EE2-24NUH
designator *  value EE2-24NUH  Reference: K
ki_keywords: signal relay double pole double throw DPDT DC coil non latching; ki_description: General purpose signal relay, Kemet EE2 Series, DPDT (2 Form C), non-latching, small footprint SMD, 60W/125VA, 220VDC/250VAC, 2A, 24V DC coil; ki_fp_filters: Relay*DPDT*Kemet*EE2*NUH*; Footprint: Relay_SMD:Relay_DPDT_Kemet_EE2_NUH; Datasheet: https://content.kemet.com/datasheets/KEM_R7002_EC2_EE2.pdf
pins: 1, 3, 4, 5, 8, 9, 10, 12
text: +

## EE2-24NUX
designator *  value EE2-24NUX  Reference: K
ki_keywords: signal relay double pole double throw DPDT DC coil non latching; ki_description: General purpose signal relay, Kemet EE2 Series, DPDT (2 Form C), non-latching, high solder joint reliability SMD, 60W/125VA, 220VDC/250VAC, 2A, 24V DC coil; ki_fp_filters: Relay*DPDT*Kemet*EE2*NUX*; Footprint: Relay_SMD:Relay_DPDT_Kemet_EE2_NUX_NKX; Datasheet: https://content.kemet.com/datasheets/KEM_R7002_EC2_EE2.pdf
pins: 1, 3, 4, 5, 8, 9, 10, 12
text: +

## EE2-24SNU
designator *  value EE2-24SNU  Reference: K
ki_keywords: signal relay double pole double throw DPDT DC coil single coil latching; ki_description: General purpose signal relay, Kemet EE2 Series, DPDT (2 Form C), single coil latching, SMD, 60W/125VA, 220VDC/250VAC, 2A, 24V DC coil; ki_fp_filters: Relay*DPDT*Kemet*EE2*NU*; Footprint: Relay_SMD:Relay_DPDT_Kemet_EE2_NU; Datasheet: https://content.kemet.com/datasheets/KEM_R7002_EC2_EE2.pdf
pins: 1, 3, 4, 5, 8, 9, 10, 12
text: +; S; R

## EE2-24SNUH
designator *  value EE2-24SNUH  Reference: K
ki_keywords: signal relay double pole double throw DPDT DC coil single coil latching; ki_description: General purpose signal relay, Kemet EE2 Series, DPDT (2 Form C), single coil latching, small footprint SMD, 60W/125VA, 220VDC/250VAC, 2A, 24V DC coil; ki_fp_filters: Relay*DPDT*Kemet*EE2*NUH*; Footprint: Relay_SMD:Relay_DPDT_Kemet_EE2_NUH; Datasheet: https://content.kemet.com/datasheets/KEM_R7002_EC2_EE2.pdf
pins: 1, 3, 4, 5, 8, 9, 10, 12
text: +; S; R

## EE2-24SNUX
designator *  value EE2-24SNUX  Reference: K
ki_keywords: signal relay double pole double throw DPDT DC coil single coil latching; ki_description: General purpose signal relay, Kemet EE2 Series, DPDT (2 Form C), single coil latching, high solder joint reliability SMD, 60W/125VA, 220VDC/250VAC, 2A, 24V DC coil; ki_fp_filters: Relay*DPDT*Kemet*EE2*NUX*; Footprint: Relay_SMD:Relay_DPDT_Kemet_EE2_NUX_NKX; Datasheet: https://content.kemet.com/datasheets/KEM_R7002_EC2_EE2.pdf
pins: 1, 3, 4, 5, 8, 9, 10, 12
text: +; S; R

## EE2-24TNU
designator *  value EE2-24TNU  Reference: K
ki_keywords: signal relay double pole double throw DPDT DC coil double dual coil latching; ki_description: General purpose signal relay, Kemet EE2 Series, DPDT (2 Form C), double coil latching, SMD, 60W/125VA, 220VDC/250VAC, 2A, 24V DC coil; ki_fp_filters: Relay*DPDT*Kemet*EE2*NU*DoubleCoil*; Footprint: Relay_SMD:Relay_DPDT_Kemet_EE2_NU_DoubleCoil; Datasheet: https://content.kemet.com/datasheets/KEM_R7002_EC2_EE2.pdf
pins: 1, 3, 4, 5, 6, 7, 8, 9, 10, 12
text: +; S; R

## EE2-24TNUH
designator *  value EE2-24TNUH  Reference: K
ki_keywords: signal relay double pole double throw DPDT DC coil double dual coil latching; ki_description: General purpose signal relay, Kemet EE2 Series, DPDT (2 Form C), double coil latching, small footprint SMD, 60W/125VA, 220VDC/250VAC, 2A, 24V DC coil; ki_fp_filters: Relay*DPDT*Kemet*EE2*NUH*DoubleCoil*; Footprint: Relay_SMD:Relay_DPDT_Kemet_EE2_NUH_DoubleCoil; Datasheet: https://content.kemet.com/datasheets/KEM_R7002_EC2_EE2.pdf
pins: 1, 3, 4, 5, 6, 7, 8, 9, 10, 12
text: +; S; R

## EE2-24TNUX
designator *  value EE2-24TNUX  Reference: K
ki_keywords: signal relay double pole double throw DPDT DC coil double dual coil latching; ki_description: General purpose signal relay, Kemet EE2 Series, DPDT (2 Form C), double coil latching, high solder joint reliability SMD, 60W/125VA, 220VDC/250VAC, 2A, 24V DC coil; ki_fp_filters: Relay*DPDT*Kemet*EE2*NUX*DoubleCoil*; Footprint: Relay_SMD:Relay_DPDT_Kemet_EE2_NUX_DoubleCoil; Datasheet: https://content.kemet.com/datasheets/KEM_R7002_EC2_EE2.pdf
pins: 1, 3, 4, 5, 6, 7, 8, 9, 10, 12
text: +; S; R

## FINDER-30.22
designator *  value FINDER-30.22  Reference: K
ki_keywords: Dual Pole Relay; ki_description: FINDER 30.52, Dual Pole Relay, Subminiature 5mm Pitch, 2A; ki_fp_filters: Relay*DPDT*Finder*30.22*; Footprint: Relay_THT:Relay_DPDT_Finder_30.22; Datasheet: http://gfinder.findernet.com/assets/Series/354/S30EN.pdf
pins: 11, 12, 14, 21, 22, 24, A1, A2

## FINDER-32.21-x000
designator *  value FINDER-32.21-x000  Reference: K
ki_keywords: Single Pole Relay; ki_description: FINDER 32.21-x000, Single Pole Relay, 6A; ki_fp_filters: Relay*SPDT*Finder*32.21*x000*; Footprint: Relay_THT:Relay_SPDT_Finder_32.21-x000; Datasheet: https://gfinder.findernet.com/assets/Series/355/S32EN.pdf
pins: 11, 12, 14, A1, A2

## FINDER-32.21-x300
designator *  value FINDER-32.21-x300  Reference: K
ki_keywords: Single Pole Relay SPST-NO; ki_description: FINDER 32.21-x300, Single Pole Relay SPST-NO, 6A; ki_fp_filters: Relay*SPST*Finder*32.21*x300*; Footprint: Relay_THT:Relay_SPST_Finder_32.21-x300; Datasheet: http://gfinder.findernet.com/assets/Series/355/S32EN.pdf
pins: 11, 14, A1, A2

## FINDER-34.51
designator *  value FINDER-34.51  Reference: K
ki_keywords: Single Pole Relay SPDT; ki_description: Ultra-slim 1 Pole - 6A SPDT relay; ki_fp_filters: Relay*SPDT*Finder*34.51*; Footprint: Relay_THT:Relay_SPDT_Finder_34.51_Vertical; Datasheet: https://gfinder.findernet.com/public/attachments/34/EN/S34USAEN.pdf
pins: 11, 12, 14, A1, A2

## FINDER-34.51.7xxx.x019
designator *  value FINDER-34.51.7xxx.x019  Reference: K
ki_keywords: Single Pole Relay SPDT; ki_description: Ultra-slim 1 Pole - 6A SPDT relay; ki_fp_filters: Relay*SPDT*Finder*34.51*Horizontal*; Footprint: Relay_THT:Relay_SPDT_Finder_34.51_Horizontal; Datasheet: https://gfinder.findernet.com/public/attachments/34/EN/S34USAEN.pdf
pins: 11, 12, 14, A1, A2

## FINDER-36.11
designator *  value FINDER-36.11  Reference: K
ki_keywords: spdt relay; ki_description: FINDER 36.11, SPDT relay, 10A; ki_fp_filters: Relay*SPDT*Finder*36.11*; Footprint: Relay_THT:Relay_SPDT_Finder_36.11; Datasheet: https://gfinder.findernet.com/public/attachments/36/EN/S36EN.pdf
pins: 11, 12, 14, A1, A2

## FINDER-40.11
designator *  value FINDER-40.11  Reference: K
ki_keywords: Single Pole Relay SPDT Finder; ki_description: PCB SPDT relay, 10A; ki_fp_filters: Relay*SPDT*Finder*40.11*; Footprint: Relay_THT:Relay_SPDT_Finder_40.11; Datasheet: https://www.finder-relais.net/de/finder-relais-serie-40.pdf
pins: 11, 12, 14, A1, A2

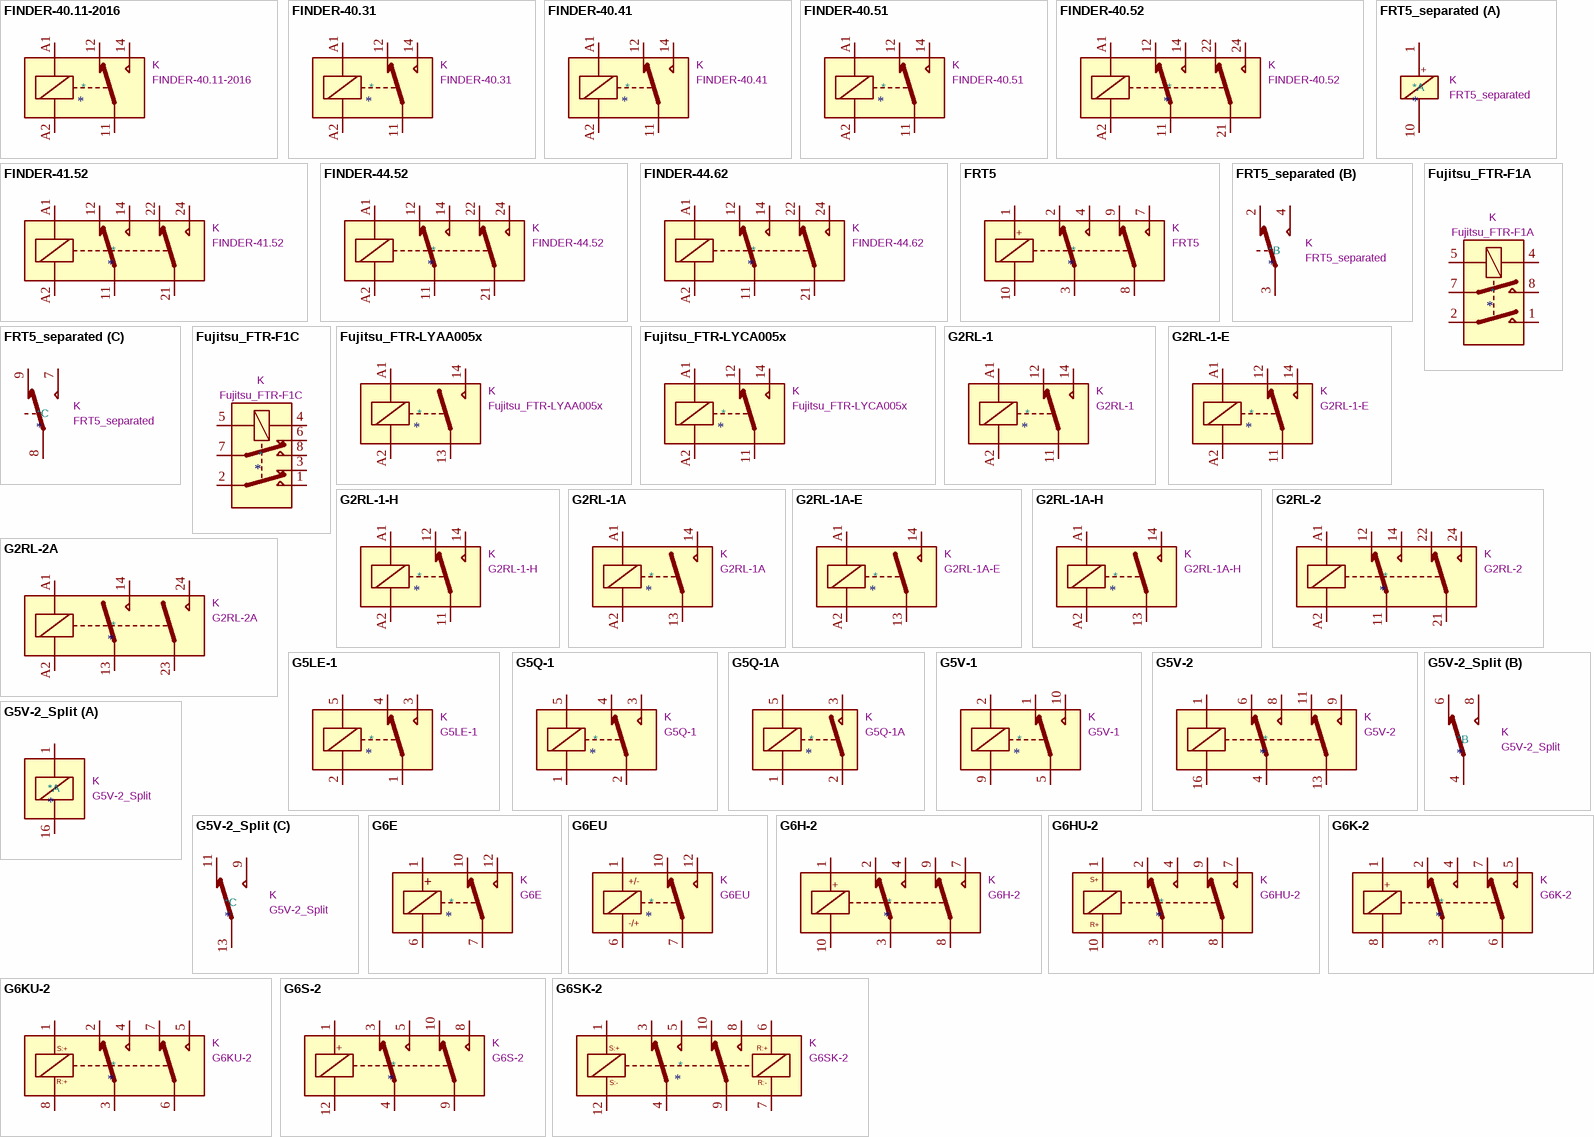
[diagram p2: symbols FINDER-40.11-2016 to G6SK-2]

## FINDER-40.11-2016
designator *  value FINDER-40.11-2016  Reference: K
ki_keywords: Single Pole Relay SPDT Finder; ki_description: PCB SPDT relay, 16A; ki_fp_filters: Relay*SPDT*Finder*40.11*; Footprint: Relay_THT:Relay_SPDT_Finder_40.11; Datasheet: https://www.finder-relais.net/de/finder-relais-serie-40.pdf
pins: 11, 12, 14, A1, A2

## FINDER-40.31
designator *  value FINDER-40.31  Reference: K
ki_keywords: Single Pole Relay; ki_description: FINDER 40.31, Single Pole Relay, 3.5mm Pitch, 10A; ki_fp_filters: Relay*SPDT*Finder*40.31*; Footprint: Relay_THT:Relay_SPDT_Finder_40.31; Datasheet: http://gfinder.findernet.com/assets/Series/353/S40EN.pdf
pins: 11, 12, 14, A1, A2

## FINDER-40.41
designator *  value FINDER-40.41  Reference: K
ki_keywords: Single Pole Relay SPDT Finder; ki_description: PCB SPDT relay, 10A; ki_fp_filters: Relay*SPDT*Finder*40.41*; Footprint: Relay_THT:Relay_SPDT_Finder_40.41; Datasheet: https://www.finder-relais.net/de/finder-relais-serie-40.pdf
pins: 11, 12, 14, A1, A2

## FINDER-40.51
designator *  value FINDER-40.51  Reference: K
ki_keywords: Single Pole Relay; ki_description: FINDER 40.51, Single Pole Relay, 5mm Pitch, 10A; ki_fp_filters: Relay*SPDT*Finder*40.51*; Footprint: Relay_THT:Relay_SPDT_Finder_40.51; Datasheet: http://gfinder.findernet.com/assets/Series/353/S40EN.pdf
pins: 11, 12, 14, A1, A2

## FINDER-40.52
designator *  value FINDER-40.52  Reference: K
ki_keywords: Dual Pole Relay; ki_description: FINDER 40.52, Dual Pole Relay, 5mm Pitch, 10A; ki_fp_filters: Relay*DPDT*Finder*40.52*; Footprint: Relay_THT:Relay_DPDT_Finder_40.52; Datasheet: http://gfinder.findernet.com/assets/Series/353/S40EN.pdf
pins: 11, 12, 14, 21, 22, 24, A1, A2

## FINDER-41.52
designator *  value FINDER-41.52  Reference: K
ki_keywords: Dual Pole Relay; ki_description: FINDER 41.52, Dual Pole Relay, 5mm Pitch, 8A; ki_fp_filters: Relay*DPDT*Finder*40.52*; Footprint: Relay_THT:Relay_DPDT_Finder_40.52; Datasheet: http://gfinder.findernet.com/assets/Series/357/S41EN.pdf
pins: 11, 12, 14, 21, 22, 24, A1, A2

## FINDER-44.52
designator *  value FINDER-44.52  Reference: K
ki_keywords: Dual Pole Relay; ki_description: FINDER 44.52, Dual Pole Relay, 5mm Pitch, 6A; ki_fp_filters: Relay*DPDT*Finder*40.52*; Footprint: Relay_THT:Relay_DPDT_Finder_40.52; Datasheet: http://gfinder.findernet.com/assets/Series/359/S44EN.pdf
pins: 11, 12, 14, 21, 22, 24, A1, A2

## FINDER-44.62
designator *  value FINDER-44.62  Reference: K
ki_keywords: Dual Pole Relay; ki_description: FINDER 44.62, Dual Pole Relay, 5mm Pitch, 10A; ki_fp_filters: Relay*DPDT*Finder*40.52*; Footprint: Relay_THT:Relay_DPDT_Finder_40.52; Datasheet: http://gfinder.findernet.com/assets/Series/359/S44EN.pdf
pins: 11, 12, 14, 21, 22, 24, A1, A2

## FRT5
designator *  value FRT5  Reference: K
ki_keywords: relay monostable; ki_description: FORWARD INDUSTRIAL, Miniature Dual Pole Relay, DIP-like package; ki_fp_filters: Relay*DPDT*FRT5*; Footprint: Relay_THT:Relay_DPDT_FRT5; Datasheet: https://www.elpro.org/de/index.php?controller=attachment&id_attachment=8663
pins: 1, 2, 3, 4, 7, 8, 9, 10
text: +

## FRT5_separated
designator *  value FRT5_separated  Reference: K
ki_keywords: relay monostable; ki_description: FORWARD INDUSTRIAL, Miniature Dual Pole Relay, DIP-like package, separate subsymbols; ki_fp_filters: Relay*DPDT*FRT5*; Footprint: Relay_THT:Relay_DPDT_FRT5; Datasheet: https://www.elpro.org/de/index.php?controller=attachment&id_attachment=8663
part A pins: 1, 10
part B pins: 2, 3, 4
part C pins: 7, 8, 9
part A text: +

## Fujitsu_FTR-F1A
designator *  value Fujitsu_FTR-F1A  Reference: K
ki_keywords: double pole single throw relay; ki_description: Fujitsu Low Profile Power Relay; ki_fp_filters: *Relay*DPST*Fujitsu*FTR*F1A*; Footprint: Relay_THT:Relay_DPST_Fujitsu_FTR-F1A; Datasheet: https://www.fcl.fujitsu.com/downloads/MICRO/fcai/relays/ftr-f1.pdf
pins: 1, 2, 4, 5, 7, 8

## Fujitsu_FTR-F1C
designator *  value Fujitsu_FTR-F1C  Reference: K
ki_keywords: double pole double throw relay; ki_description: Fujitsu Low Profile Power Relay; ki_fp_filters: *Relay*DPDT*Fujitsu*FTR*F1C*; Footprint: Relay_THT:Relay_DPDT_Fujitsu_FTR-F1C; Datasheet: https://www.fcl.fujitsu.com/downloads/MICRO/fcai/relays/ftr-f1.pdf
pins: 1, 2, 3, 4, 5, 6, 7, 8

## Fujitsu_FTR-LYAA005x
designator *  value Fujitsu_FTR-LYAA005x  Reference: K
ki_keywords: 6A SPST-NO Relay; ki_description: Relay, SPST Form A, vertical mount, 5-60V coil, 6A, 250VAC, 28 x 5 x 15mm; ki_fp_filters: Relay*Fujitsu*FTR?LYA*; Footprint: Relay_THT:Relay_SPST-NO_Fujitsu_FTR-LYAA005x_FormA_Vertical; Datasheet: https://www.fujitsu.com/sg/imagesgig5/ftr-ly.pdf
pins: 13, 14, A1, A2

## Fujitsu_FTR-LYCA005x
designator *  value Fujitsu_FTR-LYCA005x  Reference: K
ki_keywords: 6A SPDT Relay; ki_description: Relay, SPDT Form C, vertical mount, 5-60V coil, 6A, 250VAC, 28 x 5 x 15mm; ki_fp_filters: Relay*Fujitsu*FTR?LYC*; Footprint: Relay_THT:Relay_SPDT_Fujitsu_FTR-LYCA005x_FormC_Vertical; Datasheet: https://www.fujitsu.com/sg/imagesgig5/ftr-ly.pdf
pins: 11, 12, 14, A1, A2

## G2RL-1
designator *  value G2RL-1  Reference: K
ki_keywords: Single Pole Relay SPDT Omron; ki_description: General Purpose Low Profile Relay SPDT Through Hole, Omron G2RL series, 12A 250VAC; ki_fp_filters: Relay?SPDT?Omron?G2RL*; Footprint: Relay_THT:Relay_SPDT_Omron_G2RL-1; Datasheet: https://omronfs.omron.com/en_US/ecb/products/pdf/en-g2rl.pdf
pins: 11, 12, 14, A1, A2

## G2RL-1-E
designator *  value G2RL-1-E  Reference: K
ki_keywords: Single Pole Relay SPDT Omron High Capacity; ki_description: General Purpose Low Profile Relay SPDT Through Hole High Capacity, Omron G2RL series, 16A 250VAC; ki_fp_filters: Relay?SPDT?Omron?G2RL*E*; Footprint: Relay_THT:Relay_SPDT_Omron_G2RL-1-E; Datasheet: https://omronfs.omron.com/en_US/ecb/products/pdf/en-g2rl.pdf
pins: 11, 12, 14, A1, A2

## G2RL-1-H
designator *  value G2RL-1-H  Reference: K
ki_keywords: Single Pole Relay SPDT Omron High Sensitivity; ki_description: General Purpose Low Profile Relay SPDT Through Hole, Omron G2RL series, High Sensitivity, 10A 250VAC; ki_fp_filters: Relay?SPDT?Omron?G2RL*; Footprint: Relay_THT:Relay_SPDT_Omron_G2RL-1; Datasheet: https://omronfs.omron.com/en_US/ecb/products/pdf/en-g2rl.pdf
pins: 11, 12, 14, A1, A2

## G2RL-1A
designator *  value G2RL-1A  Reference: K
ki_keywords: Single Pole Relay SPST Omron NO; ki_description: General Purpose Low Profile Relay SPST Through Hole, Omron G2RL series, Normally Open, 12A 250VAC; ki_fp_filters: Relay?SPST?Omron?G2RL*; Footprint: Relay_THT:Relay_SPST_Omron_G2RL-1A; Datasheet: https://omronfs.omron.com/en_US/ecb/products/pdf/en-g2rl.pdf
pins: 13, 14, A1, A2

## G2RL-1A-E
designator *  value G2RL-1A-E  Reference: K
ki_keywords: Single Pole Relay SPST Omron NO High Capacity; ki_description: General Purpose Low Profile Relay SPST Through Hole High Capacity, Omron G2RL series, Normally Open, 16A 250VAC; ki_fp_filters: Relay?SPST?Omron?G2RL*E*; Footprint: Relay_THT:Relay_SPST_Omron_G2RL-1A-E; Datasheet: https://omronfs.omron.com/en_US/ecb/products/pdf/en-g2rl.pdf
pins: 13, 14, A1, A2

## G2RL-1A-H
designator *  value G2RL-1A-H  Reference: K
ki_keywords: Single Pole Relay SPST Omron NO High Sensitivity; ki_description: General Purpose Low Profile Relay SPST Through Hole, Omron G2RL series, Normally Open, High Sensitivity, 10A 250VAC; ki_fp_filters: Relay?SPST?Omron?G2RL*; Footprint: Relay_THT:Relay_SPST_Omron_G2RL-1A; Datasheet: https://omronfs.omron.com/en_US/ecb/products/pdf/en-g2rl.pdf
pins: 13, 14, A1, A2

## G2RL-2
designator *  value G2RL-2  Reference: K
ki_keywords: Dual Pole Relay Omron DPDT; ki_description: General Purpose Low Profile Relay DPDT Through Hole, Omron G2RL series, 8A 250VAC; ki_fp_filters: Relay?DPDT?Omron?G2RL*; Footprint: Relay_THT:Relay_DPDT_Omron_G2RL-2; Datasheet: https://omronfs.omron.com/en_US/ecb/products/pdf/en-g2rl.pdf
pins: 11, 12, 14, 21, 22, 24, A1, A2

## G2RL-2A
designator *  value G2RL-2A  Reference: K
ki_keywords: Dual Pole Relay Omron DPST NO; ki_description: General Purpose Low Profile Relay DPST Through Hole, Omron G2RL series, Normally Open,  8A 250VAC; ki_fp_filters: Relay?DPST?Omron?G2RL*; Footprint: Relay_THT:Relay_DPST_Omron_G2RL-2A; Datasheet: https://omronfs.omron.com/en_US/ecb/products/pdf/en-g2rl.pdf
pins: 13, 14, 23, 24, A1, A2

## G5LE-1
designator *  value G5LE-1  Reference: K
ki_keywords: Miniature Single Pole Relay; ki_description: Omron G5LE relay, Miniature Single Pole, SPDT, 10A; ki_fp_filters: Relay*SPDT*Omron*G5LE?1*; Footprint: Relay_THT:Relay_SPDT_Omron-G5LE-1; Datasheet: http://www.omron.com/ecb/products/pdf/en-g5le.pdf
pins: 1, 2, 3, 4, 5

## G5Q-1
designator *  value G5Q-1  Reference: K
ki_keywords: Miniature Single Pole Relay; ki_description: Omron G5G relay, Miniature Single Pole, SPDT, 10A; ki_fp_filters: Relay*SPDT*Omron*G5Q*; Footprint: Relay_THT:Relay_SPDT_Omron-G5Q-1; Datasheet: https://www.omron.com/ecb/products/pdf/en-g5q.pdf
pins: 1, 2, 3, 4, 5

## G5Q-1A
designator *  value G5Q-1A  Reference: K
ki_keywords: Miniature Single Pole Relay; ki_description: Omron G5Q relay, Miniature Single Pole, SPST-NO, 10A; ki_fp_filters: Relay*SPST*Omron*G5Q*; Footprint: Relay_THT:Relay_SPST_Omron-G5Q-1A; Datasheet: https://www.omron.com/ecb/products/pdf/en-g5q.pdf
pins: 1, 2, 3, 5

## G5V-1
designator *  value G5V-1  Reference: K
ki_keywords: Single Pole Relay SPDT; ki_description: Ultra-miniature, Highly Sensitive SPDT Relay for Signal Circuits; ki_fp_filters: Relay*SPDT*Omron*G5V?1*; Footprint: Relay_THT:Relay_SPDT_Omron_G5V-1; Datasheet: http://omronfs.omron.com/en_US/ecb/products/pdf/en-g5v_1.pdf
pins: 1, 2, 5, 6 hidden, 9, 10

## G5V-2
designator *  value G5V-2  Reference: K
ki_keywords: Miniature Relay Dual Pole DPDT Omron; ki_description: Relay Miniature Omron DPDT; ki_fp_filters: Relay*DPDT*Omron*G5V*; Footprint: Relay_THT:Relay_DPDT_Omron_G5V-2; Datasheet: http://omronfs.omron.com/en_US/ecb/products/pdf/en-g5v_2.pdf
pins: 1, 4, 6, 8, 9, 11, 13, 16

## G5V-2_Split
designator *  value G5V-2_Split  Reference: K
ki_keywords: Miniature Relay Dual Pole DPDT Omron; ki_description: Relay Miniature Omron DPDT; ki_fp_filters: Relay*DPDT*Omron*G5V*; Footprint: Relay_THT:Relay_DPDT_Omron_G5V-2; Datasheet: http://omronfs.omron.com/en_US/ecb/products/pdf/en-g5v_2.pdf
part A pins: 1, 16
part B pins: 4, 6, 8
part C pins: 9, 11, 13

## G6E
designator *  value G6E  Reference: K
ki_keywords: Single Pole Relay SPDT; ki_description: Omron Subminiature Sensitive SPDT Signal Switching Relay, Single-Side Stable; ki_fp_filters: Relay*SPDT*Omron*G6E*; Footprint: Relay_THT:Relay_SPDT_Omron_G6E; Datasheet: https://www.omron.com/ecb/products/pdf/en-g6e.pdf
pins: 1, 6, 7, 10, 12
text: +

## G6EU
designator *  value G6EU  Reference: K
ki_keywords: Single Pole Relay SPDT; ki_description: Omron G6E relay, Subminiature, Sensitive SPDT Signal Switching Relay, Single-winding latching; ki_fp_filters: Relay*SPDT*Omron*G6E*; Footprint: Relay_THT:Relay_SPDT_Omron_G6E; Datasheet: https://www.omron.com/ecb/products/pdf/en-g6e.pdf
pins: 1, 6, 7, 10, 12
text: +/-; -/+

## G6H-2
designator *  value G6H-2  Reference: K
ki_keywords: relay monostable; ki_description: Omron Ultracompact, Ultrasensitive DPDT Relay, Single-side Stable; ki_fp_filters: Relay*Omron*G6H?2*; Datasheet: http://cdn-reichelt.de/documents/datenblatt/C300/G6H%23OMR.pdf
pins: 1, 2, 3, 4, 5 NC hidden, 6 NC hidden, 7, 8, 9, 10
text: +